# Altium footprint library SOP-04.PcbLib: 1 footprints
Each footprint in its own frame and in the unit in brackets; x right, y up, seen from the top. Pads: shape width x height; smd on the part's side, far side on the other; paste and mask are expansions set on the pad; w line width, h text height; cw(c..) or ccw(c..) is an arc to the next point about the centre after c.
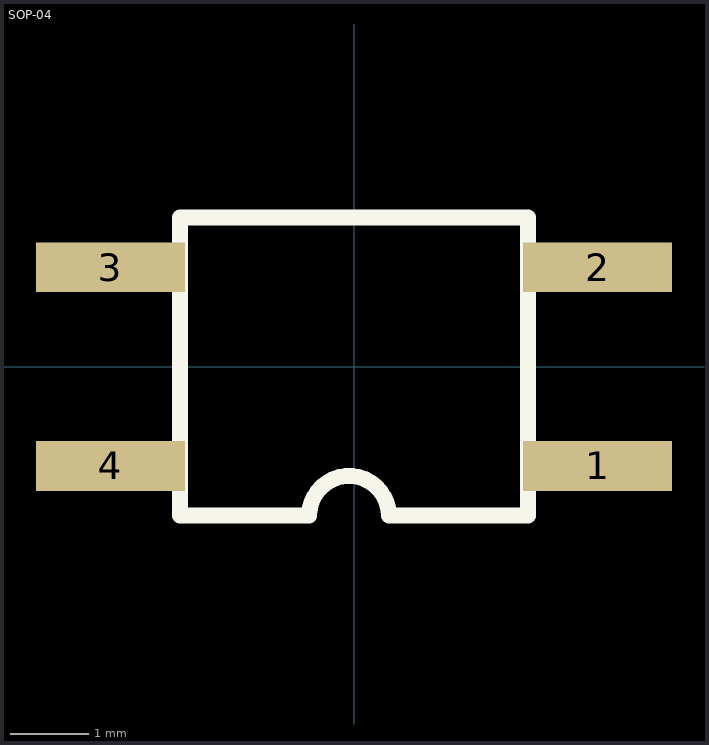
[diagram p0: the footprint, top view; thin cyan lines are the x and y axes]

## SOP-04 [mil]
pads (4):
  rect 75x25 smd: 1(122.5,-50) 2(122.5,50) 3(-122.5,50) 4(-122.5,-50)
Top Overlay:
  lines w8: -87.5,-75 -87.5,75 87.5,75 87.5,-75 17.5,-75 ccw(c-2.5,-75) -22.5,-75 -87.5,-75
3D body: height 98.43, standoff 0, extent -87.52,-75.02 87.52,75.02